# EAGLE library part 6PIN-SMD-2.54MM_2 (library CYCFI_Con)
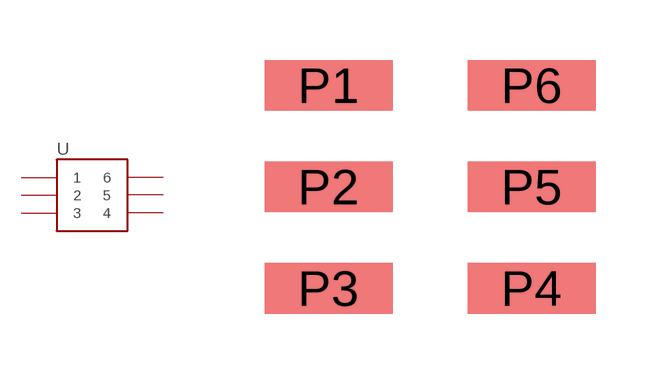
[diagram p2: symbol with the pads of 6P-SMD-2.54_2; footprint 6P-SMD-2.54_2]

Designator prefix -

## 6PIN-SMD-2.54MM_2  [6P-SMD-2.54_2]
P1  1
P2  2
P3  3
P4  4
P5  5
P6  6

## Footprint 6P-SMD-2.54_2 (pad centres in mm)
smd 3.2 x 1.27: P1 -2.54,2.54; P2 -2.54,0; P3 -2.54,-2.54; P4 2.54,-2.54; P5 2.54,0; P6 2.54,2.54